# EAGLE library part JUMPER_2X3 (library be_con_jump)
drawn: Mario Blunk / Blunk electronic
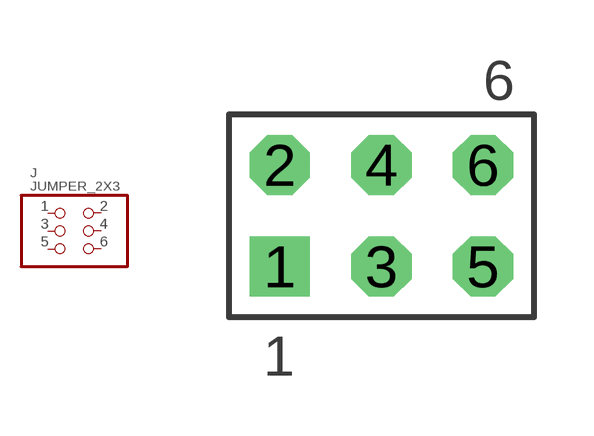
[diagram p18: symbol with the pads of T_MALE_2X3_VERTICAL; footprint T_MALE_2X3_VERTICAL]

Designator prefix J

## JUMPER_2X3-T-VERTICAL (BOM: YES; COMMISSIONED: 2014-03-27; PART_CODE_BEL: J_PAC_T_MALE_2X3_VERTICAL)  [T_MALE_2X3_VERTICAL]
1  1  pas
2  2  pas
3  3  pas
4  4  pas
5  5  pas
6  6  pas

## Footprint T_MALE_2X3_VERTICAL (pad centres in mm)
drawn: Mario Blunk / Blunk electronic date: 2014-03-27
drill 1 square: 1 -2.54,-1.27
drill 1 octagon: 2 -2.54,1.27; 3 0,-1.27; 4 0,1.27; 5 2.54,-1.27; 6 2.54,1.27